# Altium schematic symbol library Trans_ETD29.SchLib: 1 symbol
Pins are listed as number, name and electrical type; pins without a type are passive.

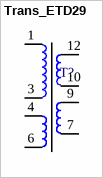
[diagram p0: symbol Trans_ETD29]

## Trans_ETD29
designator T?, comment ETD29  (value not drawn)
footprint TRANS_ETD_29
footprint ETD29_Transformer_2
pins: 1, 3, 4, 6, 7, 9, 10, 12